# EAGLE library part CP2104 (library CP2104)
Silabs CP2104 USB to UART Bridge
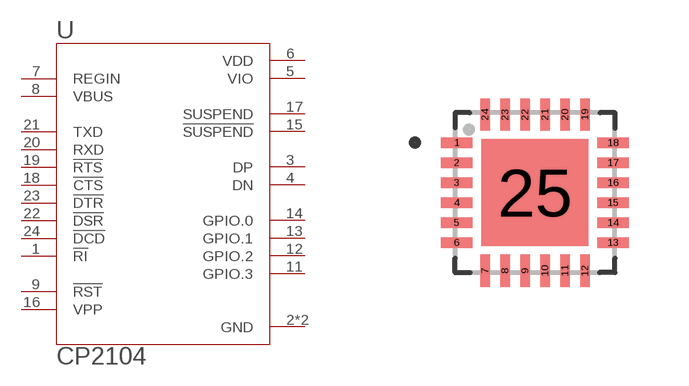
[diagram p0: symbol with the pads of QFN50P400X400X80-25N; footprint QFN50P400X400X80-25N]

Designator prefix U

## CP2104-F03-GM (Availability: Unavailable; Description: USB Bridge, USB to UART USB 2.0 UART Interface 24-QFN (4x4); MF: Silicon Labs; MP: CP2104; Package: QFN-24 Silicon Labs; Price: None)  [QFN50P400X400X80-25N]
1  !RI  in
2  GND  pwr
3  DP
4  DN
5  VIO  pwr
6  VDD  pwr
7  REGIN  in
8  VBUS  in
9  !RST!
11  GPIO.3
12  GPIO.2
13  GPIO.1
14  GPIO.0
15  !SUSPEND!  out
16  VPP  pas
17  SUSPEND  out
18  !CTS  in
19  !RTS  out
20  RXD  in
21  TXD  out
22  !DSR  in
23  !DTR  out
24  !DCD  in
25  GND  pwr

## Footprint QFN50P400X400X80-25N (pad centres in mm)
smd 0.81 x 0.26: 1 -1.955,1.25; 2 -1.955,0.75; 3 -1.955,0.25; 4 -1.955,-0.25; 5 -1.955,-0.75; 6 -1.955,-1.25; 13 1.955,-1.25; 14 1.955,-0.75; 15 1.955,-0.25; 16 1.955,0.25; 17 1.955,0.75; 18 1.955,1.25
smd 0.26 x 0.81: 7 -1.25,-1.955; 8 -0.75,-1.955; 9 -0.25,-1.955; 10 0.25,-1.955; 11 0.75,-1.955; 12 1.25,-1.955; 19 1.25,1.955; 20 0.75,1.955; 21 0.25,1.955; 22 -0.25,1.955; 23 -0.75,1.955; 24 -1.25,1.955
smd 2.68 x 2.68: 25 0,0